# EAGLE library part 182-015-213R (library con-subd)
CONN DB15 FEMAL .318" R/A NICKEL
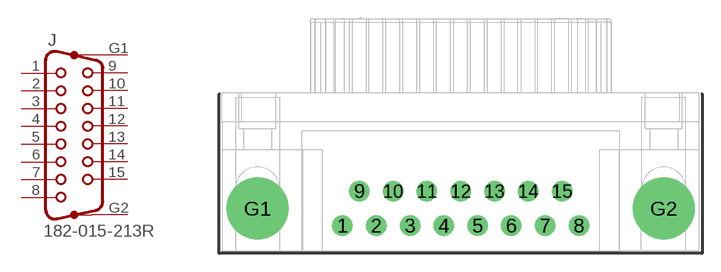
[diagram p89: symbol with the pads of 182-015-213R; footprint 182-015-213R]

Designator prefix J

## 182-015-213R  [182-015-213R]
1  1  pas
2  2  pas
3  3  pas
4  4  pas
5  5  pas
6  6  pas
7  7  pas
8  8  pas
9  9  pas
10  10  pas
11  11  pas
12  12  pas
13  13  pas
14  14  pas
15  15  pas
G1  G1  pas
G2  G2  pas

## Footprint 182-015-213R (pad centres in mm)
NORCOMP Right Angle D-Sub Connector FEMALE 182 Economy Series (.318" Footprint)
drill 1.016 pad 1.676: 1 -9.695,-1.42; 2 -6.925,-1.42; 3 -4.155,-1.42; 4 -1.385,-1.42; 5 1.385,-1.42; 6 4.155,-1.42; 7 6.925,-1.42; 8 9.695,-1.42; 9 -8.31,1.42; 10 -5.54,1.42; 11 -2.77,1.42; 12 0,1.42; 13 2.77,1.42; 14 5.54,1.42; 15 8.31,1.42
drill 3.251 pad 5.08: G1 -16.66,0; G2 16.66,0